# Altium footprint library WL-SMSW.PcbLib: 4 footprints
Each footprint in its own frame and in the unit in brackets; x right, y up, seen from the top. Pads: shape width x height; smd on the part's side, far side on the other; paste and mask are expansions set on the pad; w line width, h text height; cw(c..) or ccw(c..) is an arc to the next point about the centre after c.
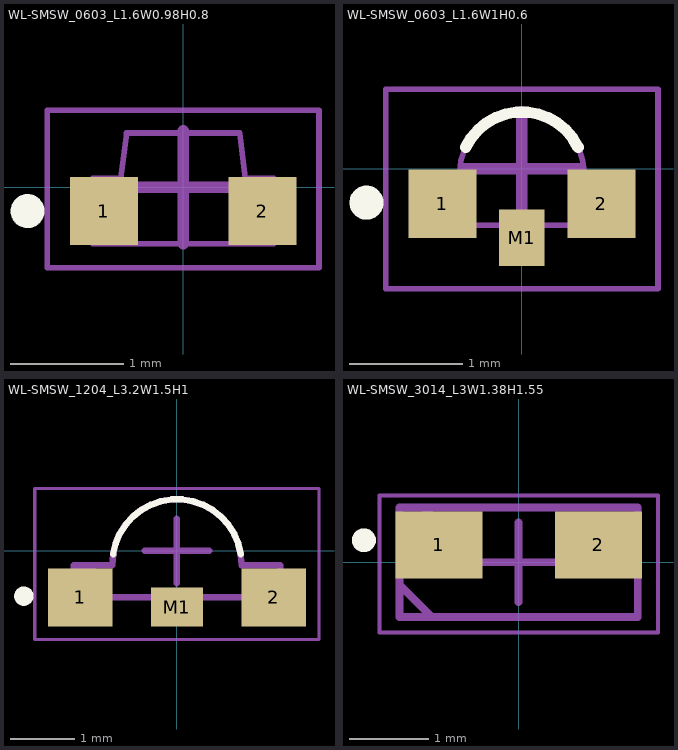
[diagram p0: the footprints below, top view; thin cyan lines are the x and y axes]

## WL-SMSW_0603_L1.6W0.98H0.8 [mm] "SMT Mono-color Side view Waterclear, body 1.6x0.98mm"
height 0.8
pads (2):
  rect 0.6x0.6 smd: 1(-0.7,-0.21) 2(0.7,-0.21)
Top Overlay:
  circle w0.15: c-1.375,-0.21 r0.075
Top Assembly:
  rectangle: -0.8,-0.5 -0.65,0.08
  lines w0.05: -0.5,0.48 0.5,0.48 ; -0.499,0.48 -0.55,0.08 -0.8,0.08 -0.8,-0.5 0.8,-0.5 0.8,0.08 0.55,0.08 0.499,0.48
Top Designator:
  text ".Designator" at -3.647,-0.357 h1
Top Courtyard:
  lines w0.05: -1.2,-0.71 1.2,-0.71 1.2,0.68 -1.2,0.68 -1.2,-0.71
Top Component Center:
  lines w0.1: -0.5,0 0.5,0 ; 0,-0.5 0,0.5
3D body "155060xx75300.stp": height 0.8, standoff 0, extent -0.8,-0.5 0.8,0.48

## WL-SMSW_0603_L1.6W1H0.6 [mm] "SMT Mono-color Side view Waterclear, body 1.6x1mm"
height 0.6
pads (3):
  rect 0.6x0.6 smd: 1(-0.7,-0.31) 2(0.7,-0.31)
  rect 0.4x0.5 smd: M1(0,-0.61)
Top Overlay:
  circle w0.15: c-1.37,-0.3 r0.075
  lines w0.1: -0.496,0.188 cw(c0,-0.05) 0.496,0.188
Top Assembly:
  rectangle: -0.8,-0.5 -0.65,-0.12
  lines w0.05: -0.8,-0.5 0.8,-0.5 0.8,-0.12 0.546,-0.12 ccw(c0,-0.05) -0.546,-0.12 -0.8,-0.12 -0.8,-0.5
Top Designator:
  text ".Designator" at -3.647,-0.357 h1
Top Courtyard:
  lines w0.05: -1.2,-1.06 -1.2,0.7 1.2,0.7 1.2,-1.06 -1.2,-1.06
Top Component Center:
  lines w0.1: -0.5,0 0.5,0 ; 0,-0.5 0,0.5
3D body "155060xx73200.stp": height 0.6, standoff 0, extent -0.8,-0.5 0.8,0.5

## WL-SMSW_1204_L3.2W1.5H1 [mm] "SMD Mono-color Side view Waterclear, body 3.2x1.5mm"
height 1
pads (3):
  rect 1x0.9 smd: 1(-1.5,-0.72) 2(1.5,-0.72)
  rect 0.8x0.6 smd: M1(0,-0.87)
Top Overlay:
  circle w0.15: c-2.37,-0.7 r0.075
  lines w0.1: -0.989,-0.052 cw(c0,-0.2) 0.989,-0.052
Top Assembly:
  rectangle: -1.6,-0.72 -1.25,-0.22
  lines w0.1: 1,-0.22 ccw(c0,-0.2) -1,-0.22 -1.6,-0.22 -1.6,-0.72 1.6,-0.72 1.6,-0.22 1,-0.22
Top Designator:
  text ".Designator" at -3.647,-0.357 h1
Top Courtyard:
  lines w0.05: -2.2,-1.37 -2.2,0.965 2.2,0.965 2.2,-1.37 -2.2,-1.37
Top Component Center:
  lines w0.1: -0.5,0 0.5,0 ; 0,-0.5 0,0.5
3D body "WL-SMSW_124_round.stp": height 1, standoff 0, extent -1.6,-0.72 1.6,0.765

## WL-SMSW_3014_L3W1.38H1.55 [mm] "SMT Mono-color Side view Waterclear, body 3x1.32mm"
height 1.4
pads (2):
  rect 1.1x0.85 smd: 1(-1.005,0.218) 2(1.005,0.218)
Top Overlay:
  circle w0.15: c-1.95,0.278 r0.075
Top Assembly:
  lines w0.1: -1.5,-0.288 -1.1,-0.687 ; -1.5,0.288 -1.1,0.688 ; -1.5,-0.687 -1.5,0.688 1.5,0.688 1.5,-0.687 -1.5,-0.687
Top Designator:
  text ".Designator" at -3.647,-0.357 h1
Top Courtyard:
  lines w0.05: -1.755,-0.887 1.755,-0.887 1.755,0.843 -1.755,0.843 -1.755,-0.887
Top Component Center:
  lines w0.1: -0.5,0 0.5,0 ; 0,-0.5 0,0.5
3D body "155301YSxxx.stp": height 1.55, standoff 0, extent -1.5,-0.687 1.5,0.693